# EAGLE library part LM2676 (library 9circuits)
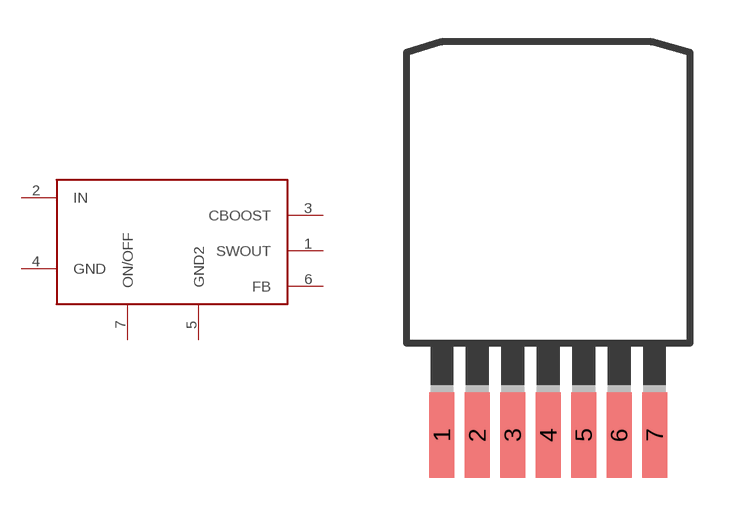
[diagram p1: symbol with the pads of TOC263-7; footprint TOC263-7]

Designator prefix -

## LM2676  [TOC263-7]
1  SWOUT
2  IN
3  CBOOST
4  GND
5  GND2
6  FB
7  ON/OFF

## Footprint TOC263-7 (pad centres in mm)
PLASTIC FLANGE-MOUNT
smd 0.889 x 3.048: 1 -3.81,-8.255; 2 -2.54,-8.255; 3 -1.27,-8.255; 4 0,-8.255; 5 1.27,-8.255; 6 2.54,-8.255; 7 3.81,-8.255